# Altium footprint library SenseResistorLib.PcbLib: 3 footprints
Each footprint in its own frame and in the unit in brackets; x right, y up, seen from the top. Pads: shape width x height; smd on the part's side, far side on the other; paste and mask are expansions set on the pad; w line width, h text height; cw(c..) or ccw(c..) is an arc to the next point about the centre after c.
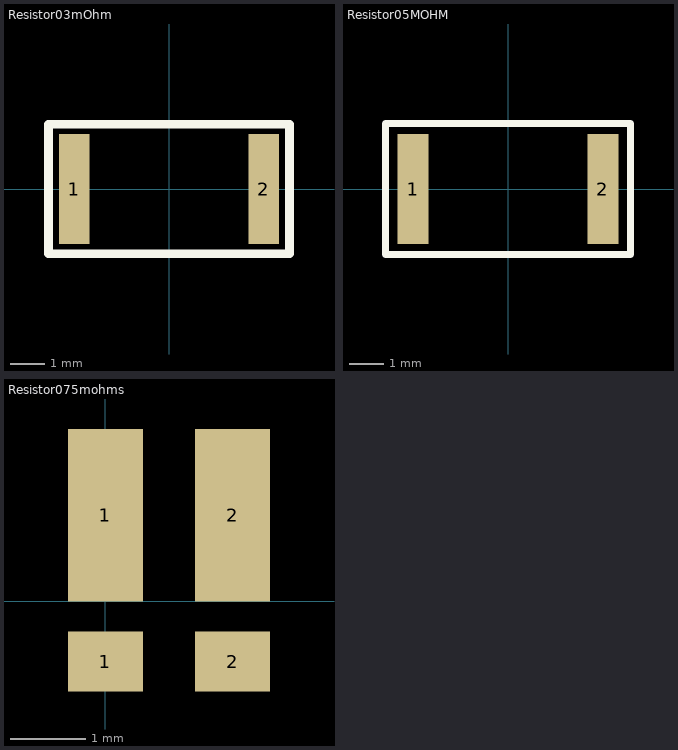
[diagram p0: the footprints below, top view; thin cyan lines are the x and y axes]

## Resistor03mOhm [mm]
pads (2):
  rect 0.9x3.25 smd: 1(-2.8,0) 2(2.8,0)
Top Overlay:
  lines w0.254: -3.556,-1.905 3.556,-1.905 3.556,1.905 -3.556,1.905 -3.556,0.631 -3.556,-1.905

## Resistor05MOHM [mm]
pads (2):
  rect 0.9x3.2 smd: 1(-2.75,0) 2(2.75,0)
Top Overlay:
  lines w0.2: -3.556,-1.905 3.556,-1.905 3.556,1.905 -3.556,1.905 -3.556,0.544 -3.556,-1.905

## Resistor075mohms [mm]
pads (4):
  rect 1x0.8 smd: 1(0,-0.8) 2(1.7,-0.8)
  rect 1x2.3 smd: 1(0,1.15) 2(1.7,1.15)
3D body "cst0612.STEP": height 0.65, standoff 0, extent -0.063,-0.89 1.587,2.16